# Altium schematic symbol library Amphenol.SchLib: 3 symbols
Pins are listed as number, name and electrical type; pins without a type are passive.

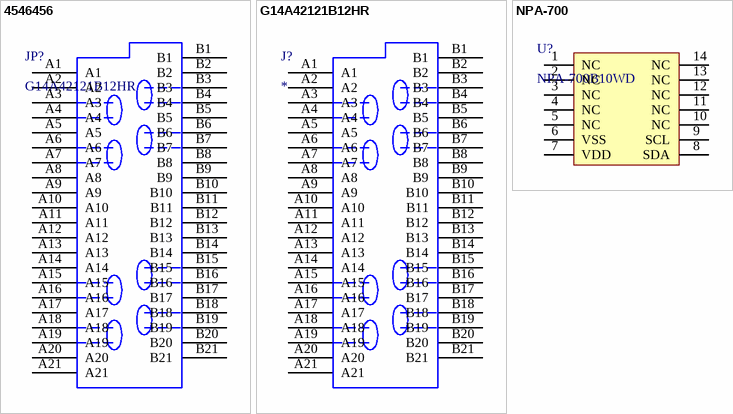
[diagram p0: symbols 4546456 to NPA-700]

## 4546456
designator JP?, comment G14A42121B12HR
COMPACT, HIGH SPEED, / NEXT-GENERATION PCIe/SAS / INTERFACE
pins: A1, A2, A3, A4, A5, A6, A7, A8, A9, A10, A11, A12, A13, A14, A15, A16, A17, A18, A19, A20, A21, B1, B2, B3, B4, B5, B6, B7, B8, B9, B10, B11, B12, B13, B14, B15, B16, B17, B18, B19, B20, B21

## G14A42121B12HR
designator J?
Connector; Manufacturer_Name: Amphenol Communications Solutions; Manufacturer_Part_Number: G14A42121B12HR; Description: OCULINK RECEPTACLE Right Angle SMT shell leg DIP length 2.1mm  tape and reel package; Reviser by: Z_xiao; Datasheet Link: https://cdn.amphenol-cs.com/media/wysiwyg/files/documentation/datasheet/inputoutput/io_oculink.pdf; Height: 4.1mm; Mouser Part Number: 523-G14A42121B12HR; Mouser Price/Stock: https://www.mouser.co.uk/ProductDetail/Amphenol-Commercial-Products/G14A42121B12HR?qs=f9yNj16SXrJhHvav%2Fp2WGA%3D%3D; ComponentLink1Description: Datasheet; ComponentLink1URL: https://cdn.amphenol-cs.cn/media/wysiwyg/files/drawing/g14a421x1bxxxhr.pdf
footprint G14A42121B12HR
pins: A1, A2, A3, A4, A5, A6, A7, A8, A9, A10, A11, A12, A13, A14, A15, A16, A17, A18, A19, A20, A21, B1, B2, B3, B4, B5, B6, B7, B8, B9, B10, B11, B12, B13, B14, B15, B16, B17, B18, B19, B20, B21

## NPA-700
designator U?, comment NPA-700B10WD
Surface-Mount / Pressure Sensor Series
footprint SOIC127P1030X330-14N (SOIC, 14-Leads, Body 11.36x7.52mm, Pitch 1.27mm, IPC Medium Density)
pins: 1 NC, 2 NC, 3 NC, 4 NC, 5 NC, 6 VSS, 7 VDD, 8 SDA, 9 SCL, 10 NC, 11 NC, 12 NC, 13 NC, 14 NC